# Altium schematic symbol library Schlib2.SchLib: 3 symbols
Pins are listed as number, name and electrical type; pins without a type are passive.

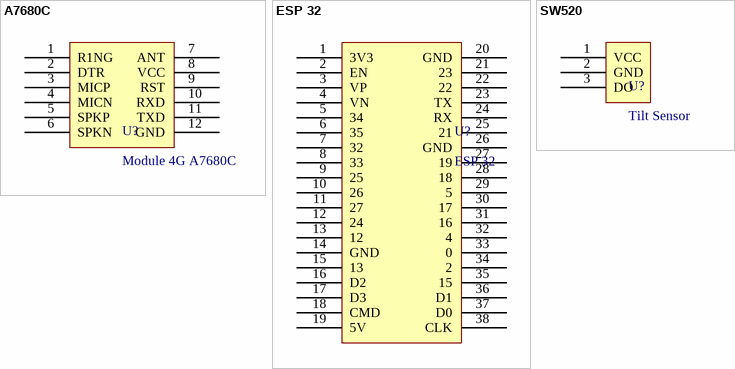
[diagram p0: symbols A7680C to SW520]

## A7680C
designator U?, comment Module 4G A7680C
footprint A768X-EC800M-FP
pins: 1 R1NG, 2 DTR, 3 MICP, 4 MICN, 5 SPKP, 6 SPKN, 7 ANT, 8 VCC (power), 9 RST, 10 RXD, 11 TXD, 12 GND (power)

## ESP 32
designator U?
pins: 1 3V3, 2 EN, 3 VP, 4 VN, 5 34, 6 35, 7 32, 8 33, 9 25, 10 26, 11 27, 12 24, 13 12, 14 GND, 15 13, 16 D2, 17 D3, 18 CMD, 19 5V, 20 GND, 21 23, 22, 23 TX, 24 RX, 25 21, 26 GND, 27 19, 28 18, 29 5, 30 17, 31 16, 32 4, 33 0, 34 2, 35 15, 36 D1, 37 D0, 38 CLK

## SW520
designator U?, comment Tilt Sensor
pins: 1 VCC, 2 GND, 3 DO